# EAGLE library part USB-A (library halcyonmod_Connectors)
USB "A" Type
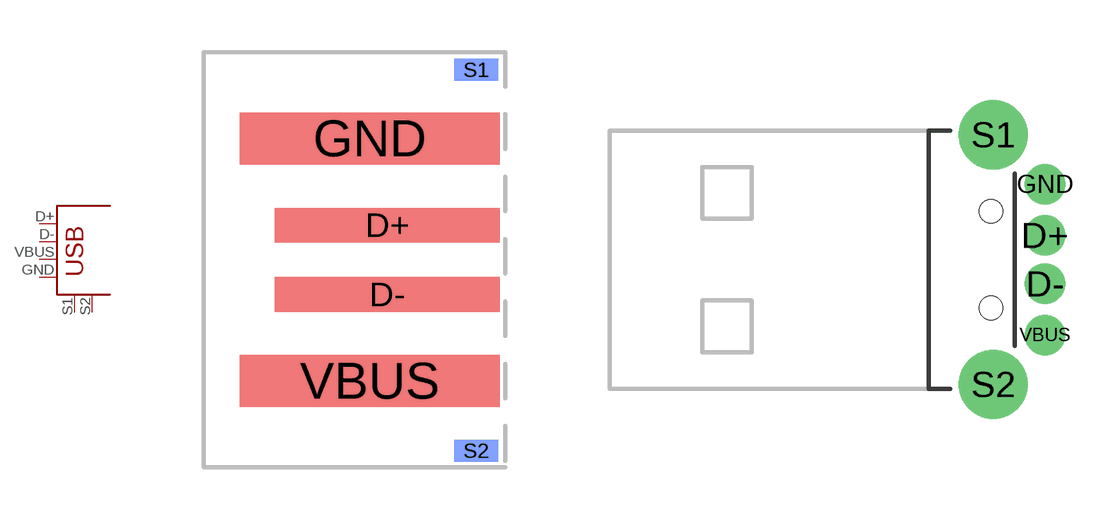
[diagram p9: symbol with the pads of USB-A-PCB; footprints USB-A-PCB, USB-A-PTH]

Designator prefix PJ

## USB-A-PCB  [USB-A-PCB]
D+  D+
D-  D-
GND  GND
S1  S1
S2  S2
VBUS  VBUS

## USB-A-PTH  [USB-A-PTH]
Pads as for USB-A-PCB

## Footprint USB-A-PCB (pad centres in mm)
Card-edge USB A connector. For boards designed to be plugged directly into a USB slot. If possible, ensure that your PCB is about 2.4mm thick to fit snugly.
smd 6.5 x 1: D+ 0.3,1; D- 0.3,-1
smd 7.5 x 1.5: GND -0.2,3.5; VBUS -0.2,-3.5
smd 1.27 x 0.635 bottom: S1 2.87,5.486; S2 2.87,-5.512

## Footprint USB-A-PTH (pad centres in mm)
USB Series A Hole Mounted
drill 0.914 pad 1.88: D+ 2.4,1.127; D- 2.4,-1.127; GND 2.4,3.5; VBUS 2.4,-3.5
drill 2.2: S1 0,5.8; S2 0,-5.8
hole 1.1 at -0.1,2.25
hole 1.1 at -0.1,-2.25